# EAGLE library part OPAMP:AD810(80MHZ,1KV/US,36V) (library QuantumOptics)
AD810, Analog Devices, 80MHz 1KV/uS 36V w/disable and trim. Bit heavy on Ib but not bad. http://www.analog.com/en/prod/0,2877,AD810,00.html
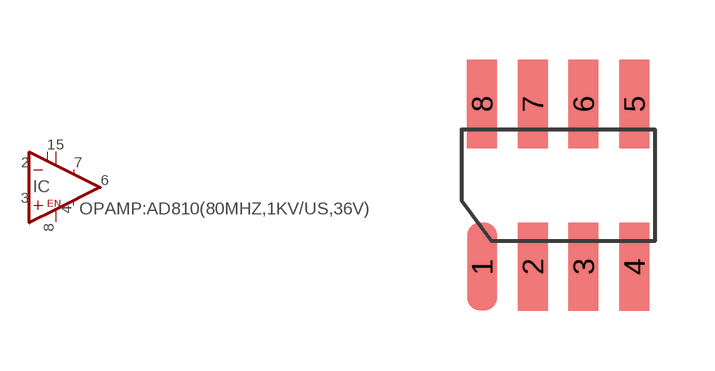
[diagram p84: symbol with the pads of SOIC-8; footprint SOIC-8]

Designator prefix IC

## OPAMP:AD810(80MHZ,1KV/US,36V)AR  [SOIC-8]
1  NULL1  in
2  -IN  in
3  +IN  in
4  V-
5  NULL2  in
6  OUT  out
7  V+
8  /DISABLE  in

## Footprint SOIC-8 (pad centres in mm)
SOIC-8 (AKA SO-8), pads on 0.050" grid.
smd 0.75 x 2.2: 1 -1.27,-2.032; 2 0,-2.032; 3 1.27,-2.032; 4 2.54,-2.032; 5 2.54,2.032; 6 1.27,2.032; 7 0,2.032; 8 -1.27,2.032